# EAGLE library part 52435-2471 (library power_module)
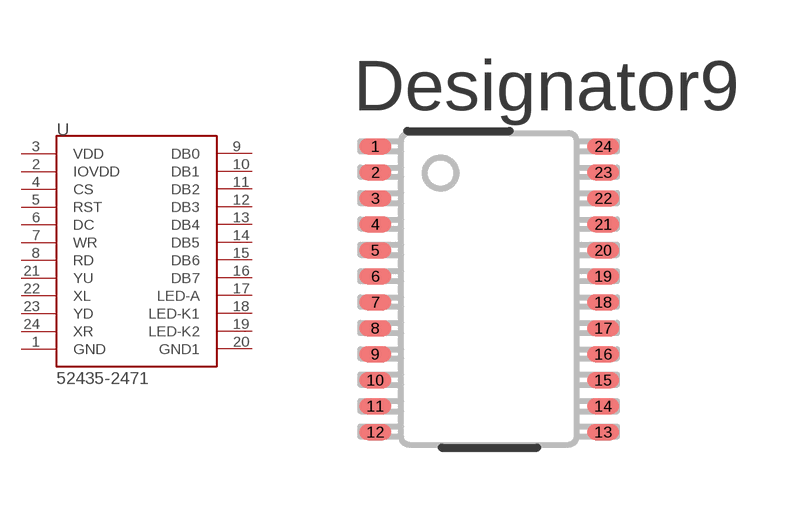
[diagram p11: symbol with the pads of PW0024A_L; footprint PW0024A_L]

Designator prefix -

## 52435-2471  [PW0024A_L]
1  GND
2  IOVDD
3  VDD
4  CS
5  RST
6  DC
7  WR
8  RD
9  DB0
10  DB1
11  DB2
12  DB3
13  DB4
14  DB5
15  DB6
16  DB7
17  LED-A
18  LED-K1
19  LED-K2
20  GND1
21  YU
22  XL
23  YD
24  XR

## Footprint PW0024A_L (pad centres in mm)
smd 0.8 x 0.4: 1 -2.85,3.575; 2 -2.85,2.925; 3 -2.85,2.275; 4 -2.85,1.625; 5 -2.85,0.975; 6 -2.85,0.325; 7 -2.85,-0.325; 8 -2.85,-0.975; 9 -2.85,-1.625; 10 -2.85,-2.275; 11 -2.85,-2.925; 12 -2.85,-3.575; 13 2.85,-3.575; 14 2.85,-2.925; 15 2.85,-2.275; 16 2.85,-1.625; 17 2.85,-0.975; 18 2.85,-0.325; 19 2.85,0.325; 20 2.85,0.975; 21 2.85,1.625; 22 2.85,2.275; 23 2.85,2.925; 24 2.85,3.575